# EAGLE library part TD62003A (library okamoto)
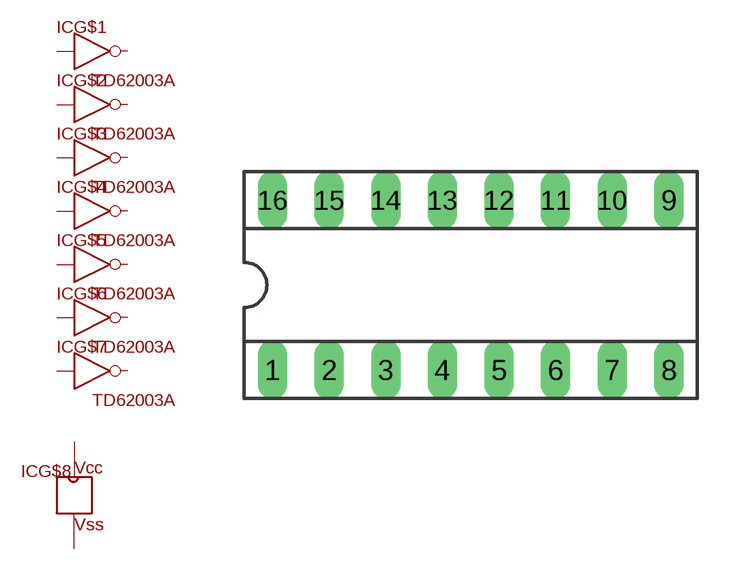
[diagram p22: symbol with the pads of SOCKET-16; footprint SOCKET-16]

Designator prefix IC; gates G$1=INVORTOR G$2=INVORTOR G$3=INVORTOR G$4=INVORTOR G$5=INVORTOR G$6=INVORTOR G$7=INVORTOR G$8=IC_POWER

## TD62003A  [SOCKET-16]
1  G$1:I  in
2  G$2:I  in
3  G$3:I  in
4  G$4:I  in
5  G$5:I  in
6  G$6:I  in
7  G$7:I  in
8  G$8:VSS  pwr
9  G$8:VCC  pwr
10  G$7:O  out
11  G$6:O  out
12  G$5:O  out
13  G$4:O  out
14  G$3:O  out
15  G$2:O  out
16  G$1:O  out

## Footprint SOCKET-16 (pad centres in mm)
Dual In Line Socket
drill 0.813 long: 1 -8.89,-3.81; 2 -6.35,-3.81; 3 -3.81,-3.81; 4 -1.27,-3.81; 5 1.27,-3.81; 6 3.81,-3.81; 7 6.35,-3.81; 8 8.89,-3.81; 9 8.89,3.81; 10 6.35,3.81; 11 3.81,3.81; 12 1.27,3.81; 13 -1.27,3.81; 14 -3.81,3.81; 15 -6.35,3.81; 16 -8.89,3.81